# EAGLE library part P-00819_J0011D21B (library Akizuki)
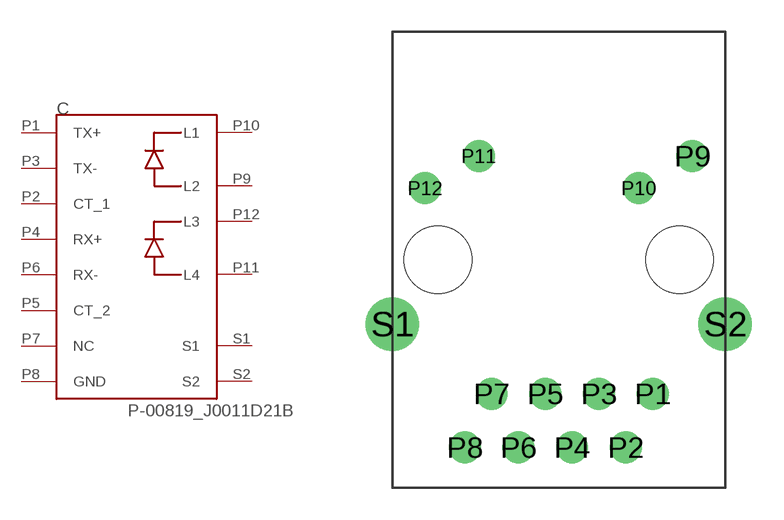
[diagram p11: symbol with the pads of J0011D21B; footprint J0011D21B]

Designator prefix C

## P-00819_J0011D21B  [J0011D21B]
P1  TX+
P2  CT_1
P3  TX-
P4  RX+
P5  CT_2
P6  RX-
P7  NC
P8  GND
P9  L2
P10  L1
P11  L4
P12  L3
S1  S1
S2  S2

## Footprint J0011D21B (pad centres in mm)
drill 1: P1 8.89,2.54; P2 7.62,0; P3 6.35,2.54; P4 5.08,0; P5 3.81,2.54; P6 2.54,0; P7 1.27,2.54; P8 0,0; P9 10.77,13.79; P10 8.23,12.27; P11 0.66,13.79; P12 -1.88,12.27
drill 1.6 pad 2.54: S1 -3.43,5.84; S2 12.32,5.84
hole 3.2 at 10.16,8.89
hole 3.2 at -1.27,8.89